# EAGLE library part 8PINDIP (library CharlieCreations)
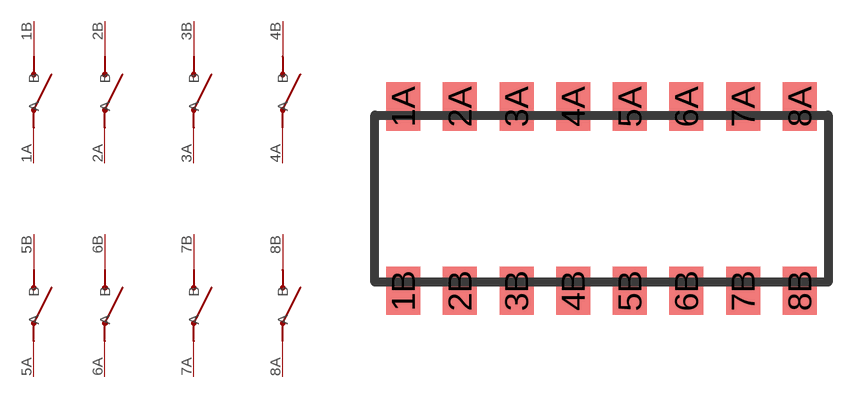
[diagram p15: symbol with the pads of DIP8SWITCH; footprint DIP8SWITCH]

Designator prefix -; gates G$1=DIPSWITCH G$2=DIPSWITCH G$3=DIPSWITCH G$4=DIPSWITCH G$5=DIPSWITCH G$6=DIPSWITCH G$7=DIPSWITCH G$8=DIPSWITCH

## 8PINDIP  [DIP8SWITCH]
1A  G$1:A
1B  G$1:B
2A  G$2:A
2B  G$2:B
3A  G$3:A
3B  G$3:B
4A  G$4:A
4B  G$4:B
5A  G$5:A
5B  G$5:B
6A  G$6:A
6B  G$6:B
7A  G$7:A
7B  G$7:B
8A  G$8:A
8B  G$8:B

## Footprint DIP8SWITCH (pad centres in mm)
smd 1.524 x 2.159: 1A -8.89,4.128; 1B -8.89,-4.128; 2A -6.35,4.128; 2B -6.35,-4.128; 3A -3.81,4.128; 3B -3.81,-4.128; 4A -1.27,4.128; 4B -1.27,-4.128; 5A 1.27,4.128; 5B 1.27,-4.128; 6A 3.81,4.128; 6B 3.81,-4.128; 7A 6.35,4.128; 7B 6.35,-4.128; 8A 8.89,4.128; 8B 8.89,-4.128